# Altium schematic symbol library SCH - BUTTON - WURTH WS-TATL 1LED.SchLib: 1 symbol
Pins are listed as number, name and electrical type; pins without a type are passive.

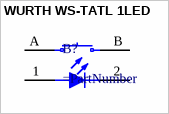
[diagram p0: symbol WURTH WS-TATL 1LED]

## WURTH WS-TATL 1LED
designator B?
pins: 1, 2, A, B